# EAGLE library part STM32F303K8-NUCLEO32 (library STM32)
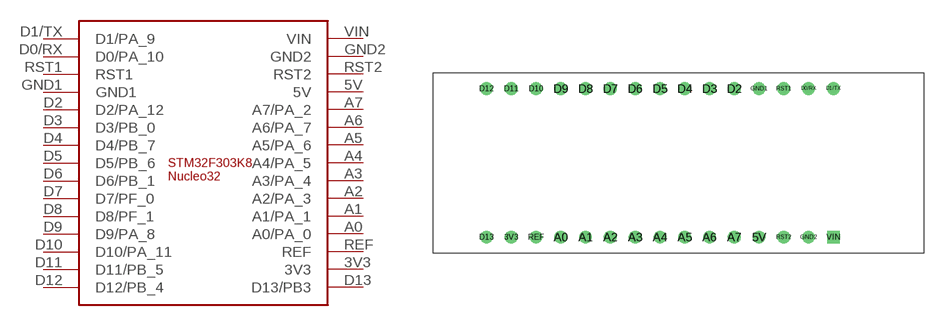
[diagram p0: symbol with the pads of STM32-NUCLEO32; footprint STM32-NUCLEO32]

Designator prefix CP

## STM32F303K8-NUCLEO32  [STM32-NUCLEO32]
3V3  3V3
5V  5V
A0  A0/PA_0
A1  A1/PA_1
A2  A2/PA_3
A3  A3/PA_4
A4  A4/PA_5
A5  A5/PA_6
A6  A6/PA_7
A7  A7/PA_2
D0/RX  D0/PA_10
D1/TX  D1/PA_9
D2  D2/PA_12
D3  D3/PB_0
D4  D4/PB_7
D5  D5/PB_6
D6  D6/PB_1
D7  D7/PF_0
D8  D8/PF_1
D9  D9/PA_8
D10  D10/PA_11
D11  D11/PB_5
D12  D12/PB_4
D13  D13/PB3
GND1  GND1
GND2  GND2
REF  REF
RST1  RST1
RST2  RST2
VIN  VIN

## Footprint STM32-NUCLEO32 (pad centres in mm)
drill 0.8: 3V3 8.001,-16.891; 5V 33.401,-16.891; A0 13.081,-16.891; A1 15.621,-16.891; A2 18.161,-16.891; A3 20.701,-16.891; A4 23.241,-16.891; A5 25.781,-16.891; A6 28.321,-16.891; A7 30.861,-16.891; D0/RX 38.481,-1.651; D1/TX 41.021,-1.651; D2 30.861,-1.651; D3 28.321,-1.651; D4 25.781,-1.651; D5 23.241,-1.651; D6 20.701,-1.651; D7 18.161,-1.651; D8 15.621,-1.651; D9 13.081,-1.651; D10 10.541,-1.651; D11 8.001,-1.651; D12 5.461,-1.651; D13 5.461,-16.891; GND1 33.401,-1.651; GND2 38.481,-16.891; REF 10.541,-16.891; RST1 35.941,-1.651; RST2 35.941,-16.891
drill 0.8 square: VIN 41.021,-16.891